# Altium footprint library adafruit.PCBLIB: 643 footprints (part 24 of 41)
Each footprint in its own frame and in the unit in brackets; x right, y up, seen from the top. Pads: shape width x height; smd on the part's side, far side on the other; paste and mask are expansions set on the pad; w line width, h text height; cw(c..) or ccw(c..) is an arc to the next point about the centre after c.
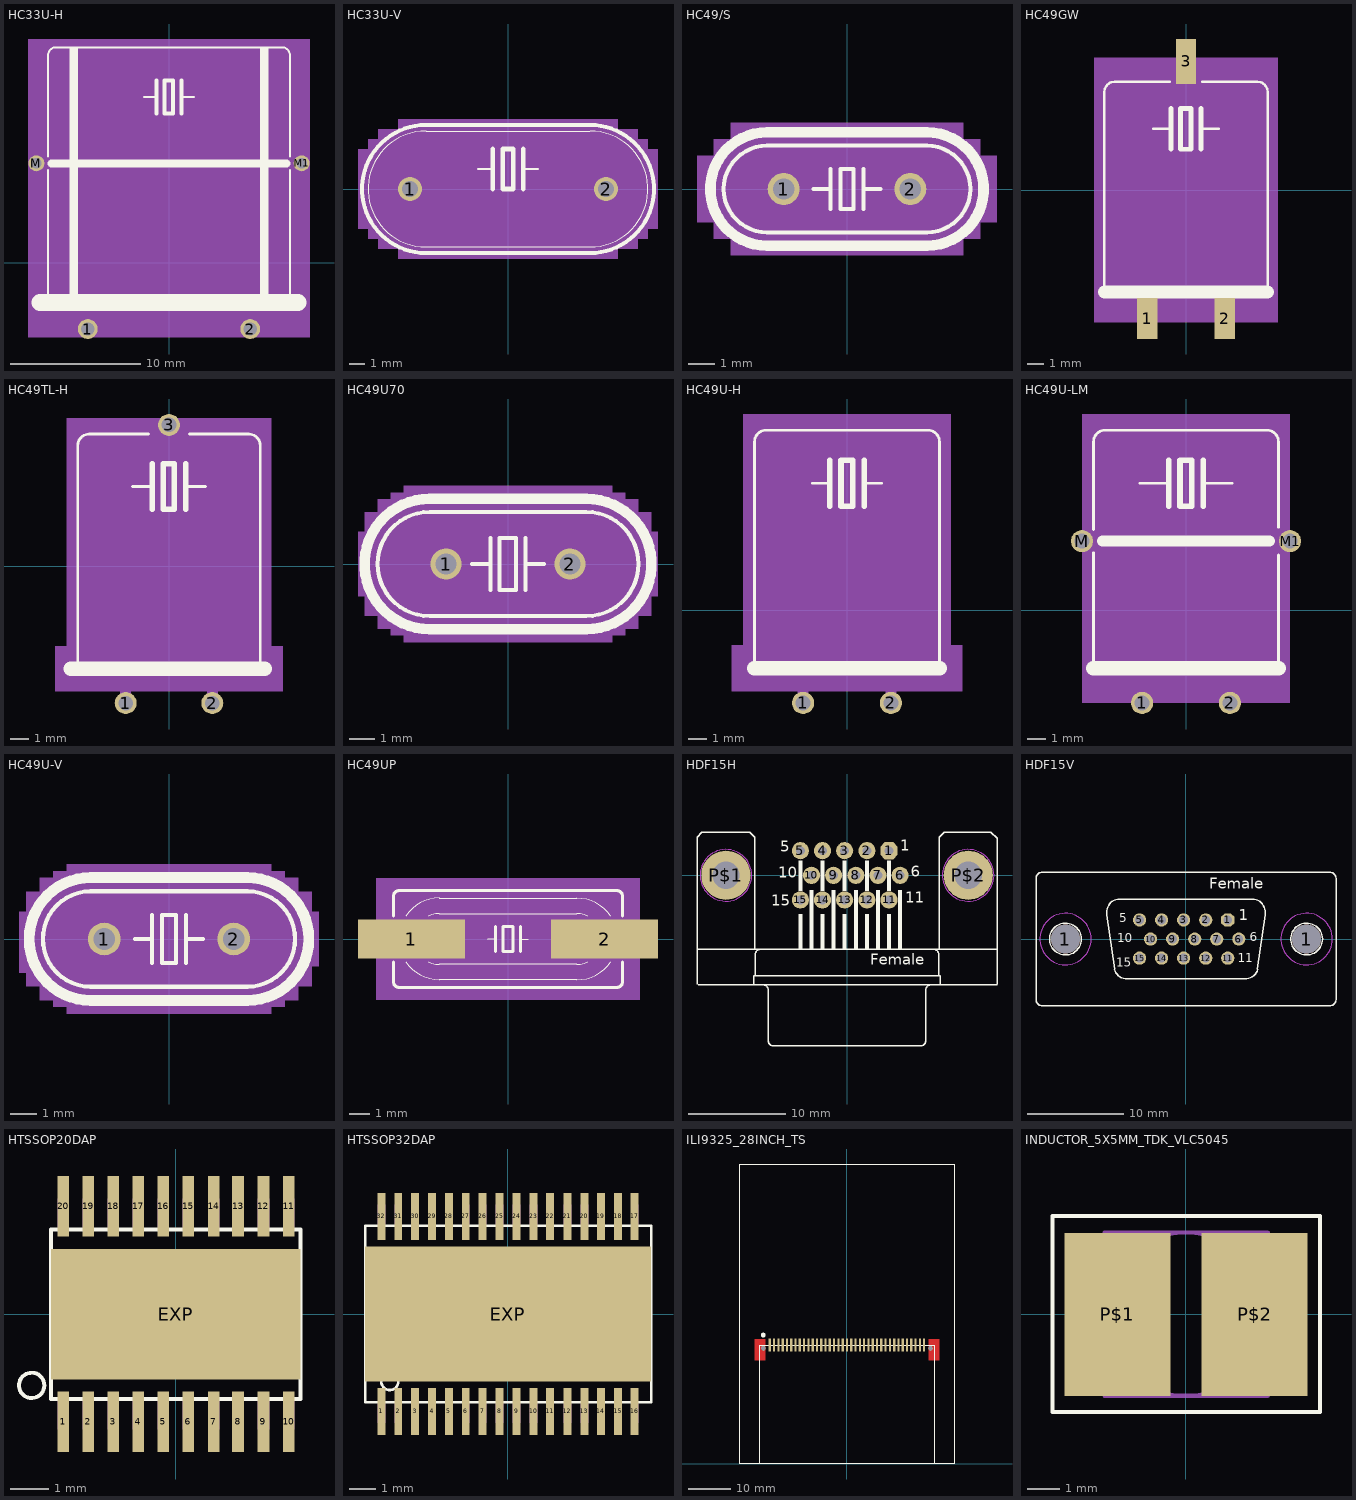
[diagram p23: the footprints below, top view; thin cyan lines are the x and y axes]

## HC33U-H [mil]
pads (4):
  round 60 hole 40: 1(-245,-200) 2(245,-200)
  round 48 hole 32: M(-400,300) M1(400,300)
Top Overlay:
  rectangle: -300,-125 -275,650
  rectangle: 275,-125 300,650
  lines w6: -365,-120 -365,280 ; -365,320 -365,625 cw(c-340,625) -340,650 340,650 cw(c340,625) 365,625 365,320 ; -75,500 -37,500 ; 37,500 75,500 ; 365,-120 365,280
  lines w12: -37,450 -37,500 -37,550 ; 37,450 37,500 37,550 ; -13,450 -13,550 12,550 12,450 -13,450
  lines w24: -355,300 355,300
  lines w50: -390,-120 -365,-120 365,-120 390,-120
Mechanical 10:
  rectangle: -425,-225 425,675
Courtyard Bottom:
  lines w6: -365,280 -365,320 ; 365,280 365,320
  lines w24: -400,300 -360,300 ; 360,300 400,300
  lines w32: -245,-200 -245,-125 ; 245,-200 245,-125

## HC33U-V [mil]
pads (2):
  round 60 hole 40: 1(-245,0) 2(245,0)
Top Overlay:
  lines w2: -205,-145 205,-145 ccw(c205,0) 205,145 -205,145 ccw(c-205,0) -205,-145
  lines w6: -75,50 -38,50 ; 38,50 75,50
  lines w10: -205,-160 205,-160 ccw(c205,0) 205,160 -205,160 ccw(c-205,0) -205,-160
  lines w12: -38,0 -38,50 -38,100 ; 38,0 38,50 38,100 ; -13,0 -13,100 13,100 13,0 -13,0
Mechanical 10:
  rectangle: -325,-150 -275,150
  rectangle: -350,-125 -325,125
  rectangle: -375,-100 -350,100
  rectangle: -275,-175 275,175
  rectangle: 275,-150 325,150
  rectangle: 325,-125 350,125
  rectangle: 350,-100 375,100

## HC49/S [mil]
pads (2):
  round 48 hole 32: 1(-95,0) 2(95,0)
Top Overlay:
  lines w6: -50,0 -25,0 ; -25,-30 -25,0 ; -25,30 -25,0 ; 25,-30 25,0 ; 25,30 25,0 ; 50,0 25,0 ; -120,-65 120,-65 ccw(c120,0) 120,65 -120,65 ccw(c-120,0) -120,-65 ; -10,-30 10,-30 10,30 -10,30 -10,-30
  lines w16: -120,-85 120,-85 ccw(c120,0) 120,85 -120,85 ccw(c-120,0) -120,-85
Mechanical 10:
  rectangle: -175,-100 175,100
  rectangle: -200,-75 -175,75
  rectangle: -225,-50 -200,50
  rectangle: 175,-75 200,75
  rectangle: 200,-50 225,50

## HC49GW [mil]
pads (3):
  rect 50x100 smd: 1(-95,-315) 2(95,-315)
  rect 50x110 smd: 3(0,315)
Top Overlay:
  lines w6: -200,-250 -200,240 cw(c-175,240) -175,265 -40,265 ; -80,150 -37,150 ; 37,150 80,150 ; 40,265 175,265 cw(c175,240) 200,240 200,-250
  lines w12: -37,100 -37,150 -37,200 ; 37,100 37,150 37,200 ; -13,100 -13,200 12,200 12,100 -13,100
  lines w32: -200,-250 200,-250
Mechanical 10:
  rectangle: -225,-325 225,325
Courtyard Bottom:
  lines w6: -40,265 40,265
  lines w24: -95,-325 -95,-260 ; 0,275 0,330 ; 95,-330 95,-255

## HC49TL-H [mil]
pads (3):
  round 48 hole 32: 1(-95,-300) 2(95,-300) 3(0,310)
Top Overlay:
  lines w6: -200,-225 -200,265 cw(c-175,265) -175,290 -45,290 ; -80,175 -37,175 ; 37,175 80,175 ; 45,290 175,290 cw(c175,265) 200,265 200,-225
  lines w12: -37,125 -37,175 -37,225 ; 37,125 37,175 37,225 ; -13,125 -13,225 12,225 12,125 -13,125
  lines w32: -215,-225 210,-225
Mechanical 10:
  rectangle: -250,-275 250,-175
  rectangle: -225,-175 225,325
Courtyard Bottom:
  rectangle: -12,290 12,298
  lines w6: -45,290 45,290
  lines w24: -95,-300 -95,-230 ; 0,300 0,310 ; 95,-300 95,-230

## HC49U70 [mil]
pads (2):
  round 48 hole 32: 1(-95,0) 2(95,0)
Top Overlay:
  lines w6: -55,0 -27,0 ; -27,-40 -27,0 ; -27,40 -27,0 ; 27,-40 27,0 ; 27,40 27,0 ; 55,0 27,0 ; -120,-80 120,-80 ccw(c120,0) 120,80 -120,80 ccw(c-120,0) -120,-80 ; -13,-40 -13,40 12,40 12,-40 -13,-40
  lines w16: -120,-100 120,-100 ccw(c120,0) 120,100 -120,100 ccw(c-120,0) -120,-100
Mechanical 10:
  rectangle: -180,-110 -160,110
  rectangle: -200,-100 -180,100
  rectangle: -220,-80 -200,80
  rectangle: -230,-50 -220,50
  rectangle: -160,-120 160,120
  rectangle: 160,-110 180,110
  rectangle: 180,-100 200,100
  rectangle: 200,-80 220,80
  rectangle: 220,-50 230,50

## HC49U-H [mil]
pads (2):
  round 48 hole 32: 1(-95,-200) 2(95,-200)
Top Overlay:
  lines w6: -200,-125 -200,365 cw(c-175,365) -175,390 175,390 cw(c175,365) 200,365 200,-125 ; -75,275 -37,275 ; 37,275 75,275
  lines w12: -37,225 -37,275 -37,325 ; 37,225 37,275 37,325 ; -13,225 -13,325 12,325 12,225 -13,225
  lines w32: -200,-125 200,-125
Mechanical 10:
  rectangle: -250,-175 250,-75
  rectangle: -225,-75 225,425
Courtyard Bottom:
  lines w24: -95,-200 -95,-130 ; 95,-200 95,-130

## HC49U-LM [mil]
pads (4):
  round 48 hole 32: 1(-95,-200) 2(95,-200) M(-225,150) M1(225,150)
Top Overlay:
  lines w6: -200,-125 -200,125 ; -200,175 -200,365 cw(c-175,365) -175,390 175,390 cw(c175,365) 200,365 200,180 ; -100,275 -37,275 ; 37,275 100,275 ; 200,-125 200,120
  lines w12: -37,225 -37,275 -37,325 ; 37,225 37,275 37,325 ; -13,225 -13,325 12,325 12,225 -13,225
  lines w24: -180,150 180,150
  lines w32: -200,-125 200,-125
Mechanical 10:
  rectangle: -225,-200 225,425
Courtyard Bottom:
  lines w6: -200,125 -200,175 ; 200,120 200,150 200,180
  lines w24: -225,150 -185,150 ; -95,-200 -95,-130 ; 95,-200 95,-130 ; 180,150 200,150 225,150

## HC49U-V [mil]
pads (2):
  round 48 hole 32: 1(-95,0) 2(95,0)
Top Overlay:
  lines w6: -50,0 -25,0 ; -25,-35 -25,0 ; -25,35 -25,0 ; 25,-35 25,0 ; 25,35 25,0 ; 50,0 25,0 ; -115,-70 115,-70 ccw(c115,0) 115,70 -115,70 ccw(c-115,0) -115,-70 ; -10,-35 10,-35 10,35 -10,35 -10,-35
  lines w16: -115,-90 115,-90 ccw(c115,0) 115,90 -115,90 ccw(c-115,0) -115,-90
Mechanical 10:
  rectangle: -150,-110 150,110
  rectangle: -170,-100 -150,100
  rectangle: -190,-90 -170,90
  rectangle: -210,-70 -190,70
  rectangle: -220,-50 -210,40
  rectangle: 150,-100 170,100
  rectangle: 170,-90 190,90
  rectangle: 190,-70 210,70
  rectangle: 210,-40 220,40

## HC49UP [mil]
pads (2):
  rect 210x76 smd: 1(-190,0) 2(190,0)
Top Overlay:
  lines w2: -201.15,-45 ccw(c-135,0) -135,-80 135,-80 ccw(c135.42,0.81) 202,-45 ; -201.15,45 cw(c-134.06,0.5) -135,81 ; -156.8,-45 ccw(c-135,0) -135,-50 135,-50 ccw(c135.1,0.45) 157,-45 ; -156.8,45 cw(c-135,0) -135,50 135,50 cw(c135.1,-0.45) 157,45 ; -135,80 135,80 cw(c135.43,-0.81) 202,45 ; -40,0 -25,0 ; 25,0 40,0
  lines w6: -225,-45 -225,-85 ccw(c-215,-85) -215,-95 215,-95 ccw(c215,-85) 225,-85 225,-45 ; -225,45 -225,85 cw(c-215,85) -215,95 215,95 cw(c215,85) 225,85 225,45 ; -25,-25 -25,0 -25,25 ; 25,-25 25,0 25,25 ; -10,-25 -10,25 10,25 10,-25 -10,-25
Mechanical 10:
  rectangle: -260,-120 260,120
Courtyard Bottom:
  lines w2: -201.15,-45 cw(c-135,0) -201.15,45 ; -156.8,-45 cw(c-135,0) -156.8,45 ; 157,-45 ccw(c135.2,0) 157,45 ; 202,-45 ccw(c135.85,0) 202,45
  lines w6: -225,-45 -225,-15 ; -225,45 -225,15 ; 225,-45 225,45 ; 225,-15 255,-15 255,15 225,15 ; -225,-15 -225,15 ; -225,-15 -255,-15 -255,15 -225,15

## HDF15H [mil]
pads (17):
  oct 70x70 hole 36: 1(171,100)
  round 70 hole 36: 2(81,100) 3(-9.57,100) 4(-99.57,100) 5(-189.57,100) 6(216,0) 7(126,0) 8(36,0) 9(-54.57,0) 10(-144.57,0) 11(171,-100) 12(81,-100) 13(-9.57,-100) 14(-99.57,-100) 15(-189.57,-100)
  round 200 hole 111: P$1(-492.13,0) P$2(493,0)
Top Overlay:
  circle w6: c493,0 r65
  circle w6: c-492.13,0 r65
  rectangle: 28,-299.21 44,-59.06
  rectangle: -62.44,-299.21 -46.69,-59.06
  rectangle: -152.44,-299.21 -136.69,-59.06
  rectangle: 118,-299.21 134,-59.06
  rectangle: 208,-299.21 224,-59.06
  rectangle: -17.44,-299.21 -1.69,-157.48
  rectangle: -107.44,-299.21 -91.69,-157.48
  rectangle: -197.44,-299.21 -181.69,-157.48
  rectangle: 73,-299.21 89,-157.48
  rectangle: 163,-299.21 179,-157.48
  rectangle: -197.44,-62.99 -181.69,60
  rectangle: -107.44,-62.99 -91.69,60
  rectangle: -17.44,-62.99 -1.69,60
  rectangle: 73,-62.99 89,60
  rectangle: 163,-62.99 179,60
  lines w6: -610,-443.94 -610,-300 ; -605.51,-444.65 610,-444.65 ; -378.5,-443.94 -378.5,-408.19 -373.5,-408.19 ; -375,-300 -375,155 -395,175 -590,175 -610,155 -610,-300 ; -348.5,-300 ccw(c-348.5,-325) -373.5,-325 -373.5,-408.19 ; -345,-444.25 cw(c-345,-469.25) -320,-469.25 -320,-673.19 ccw(c-300,-673.19) -300,-693.19 300,-693.19 ccw(c300,-673.19) 320,-673.19 320,-469.25 cw(c345,-469.25) 345,-444.25 ; 349,-300 cw(c349,-325) 374,-325 374,-408.19 ; 375,-300 375,155 395,175 585,175 610,150 610,-443.94 ; 379,-443.94 379,-408.19 374,-408.19 ; 610,-300 -610,-300 ; -373.5,-408.19 374,-408.19
  text "1" at 216,83 h77.5
  text "5" at -272.24,79 h77.5
  text "6" at 260,-22.24 h77.5
  text "10" at -280.12,-26.18 h77.5
  text "15" at -307.87,-140.35 h77.5
  text "11" at 236,-128.54 h77.5
  text "Female" at 95,-380 h77.5
Assembly Bottom keep-out:
  circle w0: c493,0 r105
  circle w0: c-492.13,0 r105
Mechanical 10:
  circle w0: c493,0 r105
  circle w0: c-492.13,0 r105
Courtyard Bottom:
  text "HDF15 CONEC" at -238.74,-579.41 h77.5

## HDF15V [mil]
pads (17):
  round 119 hole 119: 1(-492.13,0) 1(493,0)
  oct 54x54 hole 36: 1(171,78)
  round 54 hole 36: 2(81,78) 3(-9.57,78) 4(-99.57,78) 5(-189.57,78) 6(216,0) 7(126,0) 8(36,0) 9(-54.57,0) 10(-144.57,0) 11(171,-77.95) 12(81,-77.95) 13(-9.57,-77.95) 14(-99.57,-77.95) 15(-189.57,-77.95)
Top Overlay:
  circle w6: c493,0 r65
  circle w6: c-492.13,0 r65
  lines w6: -587.44,-272.56 cw(c-587.44,-247.56) -612.44,-247.56 -612.44,248 cw(c-587.44,248) -587.44,273 588,273 cw(c588,248) 613,248 613,-247.56 cw(c588,-247.56) 588,-272.56 -587.13,-272.56 ; -292,-123.21 ccw(c-240.71,-109.87) -240.71,-162.87 241,-162.87 ccw(c241.35,-109.42) 293,-123.21 ; -291.69,-123.86 -322.72,100 cw(c-270.87,110.2) -270.71,163 271,163 cw(c271.22,110.06) 323,99 292,-122.87
  text "1" at 216,61 h77.5
  text "5" at -272.24,57 h62
  text "6" at 260,-22.24 h62
  text "10" at -280.12,-26.18 h62
  text "15" at -284.25,-124.61 h62
  text "11" at 212,-106.5 h62
  text "Female" at 95,190 h77.5
Assembly Bottom keep-out:
  circle w0: c493,0 r105
  circle w0: c-492.13,0 r105
Mechanical 10:
  circle w0: c493,0 r105
  circle w0: c-492.13,0 r105
Courtyard Bottom:
  text "HDF15 CONEC" at -473.74,211 h77.5

## HTSSOP20DAP [mil]
pads (21):
  rect 12x62 smd: 1(-115.16,-110.24) 2(-89.57,-110.24) 3(-63.98,-110.24) 4(-38.39,-110.24) 5(-12.8,-110.24) 6(13,-110.24) 7(39,-110.24) 8(64,-110.24) 9(90,-110.24) 10(116,-110.24) 11(116,111) 12(90,111) 13(64,111) 14(39,111) 15(13,111) 16(-12.8,111) 17(-38.39,111) 18(-63.98,111) 19(-89.57,111) 20(-115.16,111)
  rect 256x134 smd: EXP(0,0)
Top Overlay:
  circle w4: c-147.64,-72.83 r13
  lines w4: -127.95,-86.61 128,-86.61 128,87 -127.95,87 -127.95,-86.61
Top Paste:
  region: 0,0 10,0 10,10 0,10
Top Solder:
  region: 0,0 10,0 10,10 0,10
Courtyard Bottom:
  rectangle: -121.06,-118.11 -109.25,-88.58
  rectangle: -95.47,-118.11 -83.66,-88.58
  rectangle: -69.88,-118.11 -58.07,-88.58
  rectangle: -44.29,-118.11 -32.48,-88.58
  rectangle: -18.7,-118.11 -6.89,-88.58
  rectangle: 7,-118.11 19,-88.58
  rectangle: 33,-118.11 45,-88.58
  rectangle: 59,-118.11 70,-88.58
  rectangle: 84,-118.11 96,-88.58
  region: 122,119 110,119 110,89 122,89
  region: 96,119 84,119 84,89 96,89
  region: 70,119 59,119 59,89 70,89
  region: 45,119 33,119 33,89 45,89
  region: 19,119 7,119 7,89 19,89
  region: -6.89,119 -18.7,119 -18.7,89 -6.89,89
  region: -32.48,119 -44.29,119 -44.29,89 -32.48,89
  region: -58.07,119 -69.88,119 -69.88,89 -58.07,89
  region: -83.66,119 -95.47,119 -95.47,89 -83.66,89
  region: -109.25,119 -121.06,119 -121.06,89 -109.25,89
  rectangle: 110,-118.11 122,-88.58

## HTSSOP32DAP [mil]
pads (33):
  rect 12x71 smd: 1(-191.93,-147.64) 2(-166.34,-147.64) 3(-140.75,-147.64) 4(-115.16,-147.64) 5(-89.57,-147.64) 6(-63.98,-147.64) 7(-38.39,-147.64) 8(-12.8,-147.64) 9(13,-147.64) 10(39,-147.64) 11(64,-147.64) 12(90,-147.64) 13(116,-147.64) 14(141,-147.64) 15(167,-147.64) 16(192,-147.64) 17(192,148) 18(167,148) 19(141,148) 20(116,148) 21(90,148) 22(64,148) 23(39,148) 24(13,148) 25(-12.8,148) 26(-38.39,148) 27(-63.98,148) 28(-89.57,148) 29(-115.16,148) 30(-140.75,148) 31(-166.34,148) 32(-191.93,148)
  rect 434x205 smd: EXP(0,0)
Top Overlay:
  circle w4: c-179.13,-102.36 r13
  lines w4: -216.54,-133.86 217,-133.86 217,134 -216.54,134 -216.54,-133.86
Top Paste:
  rectangle: -70.87,-47.24 71,48
Top Solder:
  region: 0,0 10,0 10,10 0,10
Courtyard Bottom:
  rectangle: -197.83,-165.35 -186.02,-135.83
  rectangle: -172.24,-165.35 -160.43,-135.83
  rectangle: -146.65,-165.35 -134.84,-135.83
  rectangle: -121.06,-165.35 -109.25,-135.83
  rectangle: -95.47,-165.35 -83.66,-135.83
  rectangle: -69.88,-165.35 -58.07,-135.83
  rectangle: -44.29,-165.35 -32.48,-135.83
  rectangle: -18.7,-165.35 -6.89,-135.83
  rectangle: 7,-165.35 19,-135.83
  rectangle: 33,-165.35 45,-135.83
  rectangle: 59,-165.35 70,-135.83
  rectangle: 84,-165.35 96,-135.83
  rectangle: 110,-165.35 122,-135.83
  rectangle: 135,-165.35 147,-135.83
  rectangle: 161,-165.35 173,-135.83
  rectangle: 187,-165.35 198,-135.83
  region: 198,166 187,166 187,136 198,136
  region: 173,166 161,166 161,136 173,136
  region: 147,166 135,166 135,136 147,136
  region: 122,166 110,166 110,136 122,136
  region: 96,166 84,166 84,136 96,136
  region: 70,166 59,166 59,136 70,136
  region: 45,166 33,166 33,136 45,136
  region: 19,166 7,166 7,136 19,136
  region: -6.89,166 -18.7,166 -18.7,136 -6.89,136
  region: -32.48,166 -44.29,166 -44.29,136 -32.48,136
  region: -58.07,166 -69.88,166 -69.88,136 -58.07,136
  region: -83.66,166 -95.47,166 -95.47,136 -83.66,136
  region: -109.25,166 -121.06,166 -121.06,136 -109.25,136
  region: -134.84,166 -146.65,166 -146.65,136 -134.84,136
  region: -160.43,166 -172.24,166 -172.24,136 -160.43,136
  region: -186.02,166 -197.83,166 -197.83,136 -186.02,136

## ILI9325_28INCH_TS [mil]
pads (39):
  round 40 hole 40: 1(-767.72,1063) 1(768,1063)
  rect 20x119 smd: 1(-708.66,1094) 2(-669.29,1094) 3(-629.92,1094) 4(-590.55,1094) 5(-551.18,1094) 6(-511.81,1094) 7(-472.44,1094) 8(-433.07,1094) 9(-393.7,1094) 10(-354.33,1094) 11(-314.96,1094) 12(-275.59,1094) 13(-236.22,1094) 14(-196.85,1094) 15(-157.48,1094) 16(-118.11,1094) 17(-78.74,1094) 18(-39.37,1094) 19(0,1094) 20(40,1094) 21(79,1094) 22(119,1094) 23(158,1094) 24(197,1094) 25(237,1094) 26(276,1094) 27(315,1094) 28(355,1094) 29(394,1094) 30(434,1094) 31(473,1094) 32(512,1094) 33(552,1094) 34(591,1094) 35(630,1094) 36(670,1094) 37(709,1094)
Top Layer:
  rectangle: -850,950 -750,1150
  rectangle: 750,950 850,1150
Top Overlay:
  circle w24: c-769.06,1184 r10
  lines w5: -803.15,0 -803.15,1090 804,1090 800,0 ; -803.15,0 800,0 ; -803.15,0 -984.25,0 -984.25,2756 985,2756 985,0 800,0
Top Solder:
  rectangle: -850,950 -750,1150
  rectangle: 750,950 850,1150

## INDUCTOR_5X5MM_TDK_VLC5045 [mil]
pads (2):
  rect 128x197 smd: P$1(-82.68,0) P$2(83,0)
Top Overlay:
  lines w5: -161.42,-118.11 162,-118.11 162,119 -161.42,119 -161.42,-118.11
Courtyard Bottom:
  circle w5: c0,0 r99
  lines w5: -98.43,-98.43 99,-98.43 99,99 -98.43,99 -98.43,-98.43